# EAGLE library part CARDEDGE-CONNECTOR_50PI_CARDEDGE_2.54MM_MOTHER (library ネオぴゅう太_ReplaceLibParts)
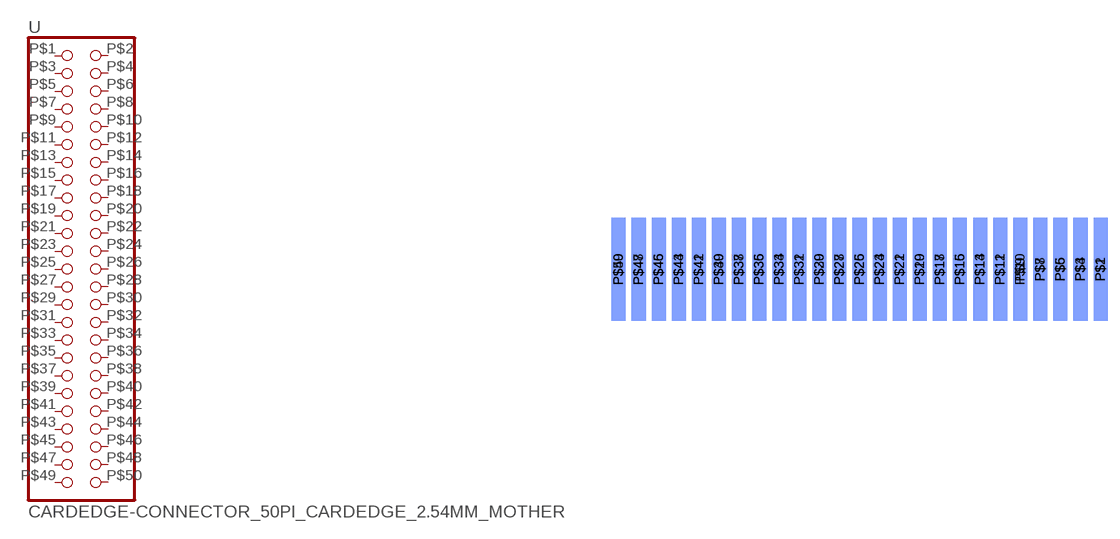
[diagram p11: symbol with the pads of CARDEDGE-CONNECTOR_50PIN_CARDEDGE_2.54MM; footprint CARDEDGE-CONNECTOR_50PIN_CARDEDGE_2.54MM]

Designator prefix -

## CARDEDGE-CONNECTOR_50PI_CARDEDGE_2.54MM_MOTHER  [CARDEDGE-CONNECTOR_50PIN_CARDEDGE_2.54MM]
P$1  1  pas
P$2  2  pas
P$3  3  pas
P$4  4  pas
P$5  5  pas
P$6  6  pas
P$7  7  pas
P$8  8  pas
P$9  9  pas
P$10  10  pas
P$11  11  pas
P$12  12  pas
P$13  13  pas
P$14  14  pas
P$15  15  pas
P$16  16  pas
P$17  17  pas
P$18  18  pas
P$19  19  pas
P$20  20  pas
P$21  21  pas
P$22  22  pas
P$23  23  pas
P$24  24  pas
P$25  25  pas
P$26  26  pas
P$27  27  pas
P$28  28  pas
P$29  29  pas
P$30  30  pas
P$31  31  pas
P$32  32  pas
P$33  33  pas
P$34  34  pas
P$35  35  pas
P$36  36  pas
P$37  37  pas
P$38  38  pas
P$39  39  pas
P$40  40  pas
P$41  41  pas
P$42  42  pas
P$43  43  pas
P$44  44  pas
P$45  45  pas
P$46  46  pas
P$47  47  pas
P$48  48  pas
P$49  49  pas
P$50  50  pas

## Footprint CARDEDGE-CONNECTOR_50PIN_CARDEDGE_2.54MM (pad centres in mm)
smd 1.778 x 13: P$1 63.5,11.43; P$3 60.96,11.43; P$5 58.42,11.43; P$7 55.88,11.43; P$9 53.34,11.43; P$11 50.8,11.43; P$13 48.26,11.43; P$15 45.72,11.43; P$17 43.18,11.43; P$19 40.64,11.43; P$21 38.1,11.43; P$23 35.56,11.43; P$25 33.02,11.43; P$27 30.48,11.43; P$29 27.94,11.43; P$31 25.4,11.43; P$33 22.86,11.43; P$35 20.32,11.43; P$37 17.78,11.43; P$39 15.24,11.43; P$41 12.7,11.43; P$43 10.16,11.43; P$45 7.62,11.43; P$47 5.08,11.43; P$49 2.54,11.43
smd 1.778 x 13 bottom: P$2 63.5,11.43; P$4 60.96,11.43; P$6 58.42,11.43; P$8 55.88,11.43; P$10 53.34,11.43; P$12 50.8,11.43; P$14 48.26,11.43; P$16 45.72,11.43; P$18 43.18,11.43; P$20 40.64,11.43; P$22 38.1,11.43; P$24 35.56,11.43; P$26 33.02,11.43; P$28 30.48,11.43; P$30 27.94,11.43; P$32 25.4,11.43; P$34 22.86,11.43; P$36 20.32,11.43; P$38 17.78,11.43; P$40 15.24,11.43; P$42 12.7,11.43; P$44 10.16,11.43; P$46 7.62,11.43; P$48 5.08,11.43; P$50 2.54,11.43